# Altium footprint library DIP28.PcbLib: 2 footprints
Each footprint in its own frame and in the unit in brackets; x right, y up, seen from the top. Pads: shape width x height; smd on the part's side, far side on the other; paste and mask are expansions set on the pad; w line width, h text height; cw(c..) or ccw(c..) is an arc to the next point about the centre after c.
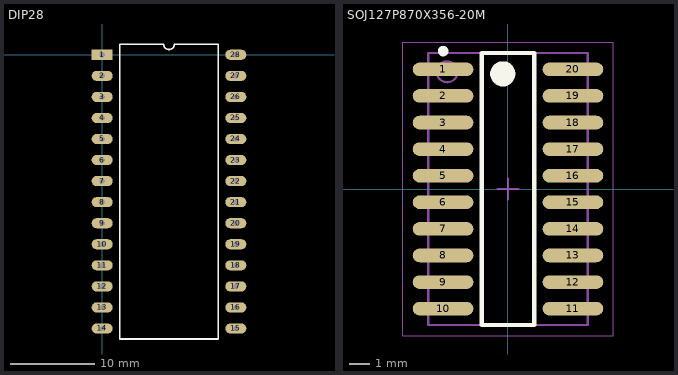
[diagram p0: the footprints below, top view; thin cyan lines are the x and y axes]

## DIP28 [mm]
pads (28):
  rect 2.5x1.2 hole 0.625: 1(0,0)
  oval 2.5x1.2 hole 0.625: 2(0,-2.5) 3(0,-5) 4(0,-7.5) 5(0,-10) 6(0,-12.5) 7(0,-15) 8(0,-17.5) 9(0,-20) 10(0,-22.5) 11(0,-25) 12(0,-27.5) 13(0,-30) 14(0,-32.5) 15(15.88,-32.5) 16(15.88,-30) 17(15.88,-27.5) 18(15.88,-25) 19(15.88,-22.5) 20(15.88,-20) 21(15.88,-17.5) 22(15.88,-15) 23(15.88,-12.5) 24(15.88,-10) 25(15.88,-7.5) 26(15.88,-5) 27(15.88,-2.5) 28(15.88,0)
Top Overlay:
  lines w0.2: 2.085,-33.75 2.085,1.25 7.315,1.25 ccw(c7.94,1.25) 8.565,1.25 13.795,1.25 13.795,-33.75 2.085,-33.75
3D body "ADC0808CCN--3DModel-STEP-56544.STEP": height 5.08, standoff -3.18, extent 0.385,-34.288 15.875,2.032

## SOJ127P870X356-20M [mm] "SOJ, 20-Leads, Body 13,00x8,66mm, Pitch 1,27mm, IPC Low Density"
height 3.56
pads (20):
  oval 2.9x0.65 smd: 1(-3.1,5.715) 2(-3.1,4.445) 3(-3.1,3.175) 4(-3.1,1.905) 5(-3.1,0.635) 6(-3.1,-0.635) 7(-3.1,-1.905) 8(-3.1,-3.175) 9(-3.1,-4.445) 10(-3.1,-5.715) 11(3.1,-5.715) 12(3.1,-4.445) 13(3.1,-3.175) 14(3.1,-1.905) 15(3.1,-0.635) 16(3.1,0.635) 17(3.1,1.905) 18(3.1,3.175) 19(3.1,4.445) 20(3.1,5.715)
Top Overlay:
  circle w0.6: c-0.25,5.5 r0.3
  circle w0.25: c-3.1,6.59 r0.125
  lines w0.2: -1.25,-6.5 1.25,-6.5 1.25,6.5 -1.25,6.5 -1.25,-6.5
Mechanical 13:
  circle w0.1: c-2.91,5.6 r0.5
  lines w0.1: -3.81,-6.5 3.81,-6.5 3.81,6.5 -3.81,6.5 -3.81,-6.5
Mechanical 15:
  lines w0.05: -5.025,-7 5.025,-7 5.025,7 -5.025,7 -5.025,-7
  lines w0.1: -0.5,0 0.5,0 ; 0,-0.5 0,0.5
3D body: height 3.56, standoff 0.64, extent -3.81,-6.5 3.81,6.5